# EAGLE library part MICROSD_HOLDER (library SobieskiSat2)
https://www.molex.com/molex/products/datasheet.jsp?part=active/5033981892_MEMORY_CARD_SOCKET.xml&channel=Products&Lang=en-US
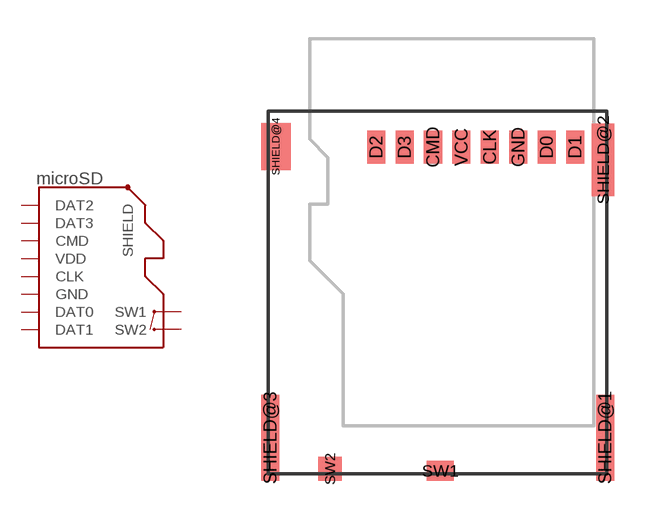
[diagram p1: symbol with the pads of MICROSD_HOLDER; footprint MICROSD_HOLDER]

Designator prefix -

## MICROSD_HOLDER  [MICROSD_HOLDER]
CLK  CLK
CMD  CMD
D0  DAT0
D1  DAT1
D2  DAT2
D3  DAT3
GND  GND
SHIELD@1  SHIELD
SHIELD@2  SHIELD
SHIELD@3  SHIELD
SHIELD@4  SHIELD
SW1  SW1
SW2  SW2
VCC  VDD

## Footprint MICROSD_HOLDER (pad centres in mm)
smd 0.7 x 1.27: CLK 2.02,6; CMD -0.18,6; D0 4.22,6; D1 5.32,6; D2 -2.38,6; D3 -1.28,6; GND 3.12,6; VCC 0.92,6
smd 0.7 x 3.33: SHIELD@1 6.48,-5.263; SHIELD@3 -6.48,-5.263
smd 0.86 x 2.8: SHIELD@2 6.4,5.5
smd 1.14 x 1.83: SHIELD@4 -6.26,6.015
smd 1.05 x 0.78: SW1 0.095,-6.54
smd 0.9 x 0.93: SW2 -4.17,-6.465